# EAGLE library part PEX78311 (library plxtech)
PCI Express Endpoint Interface Auto generated by make-symbol-device-package-bsdl.ulp Rev. 16 from PEX8311_BSDL_netlist_r1.0.dat and manuell corrected Source: PEX_8311AA_Data_Book_v0.90_10Apr06.pdf
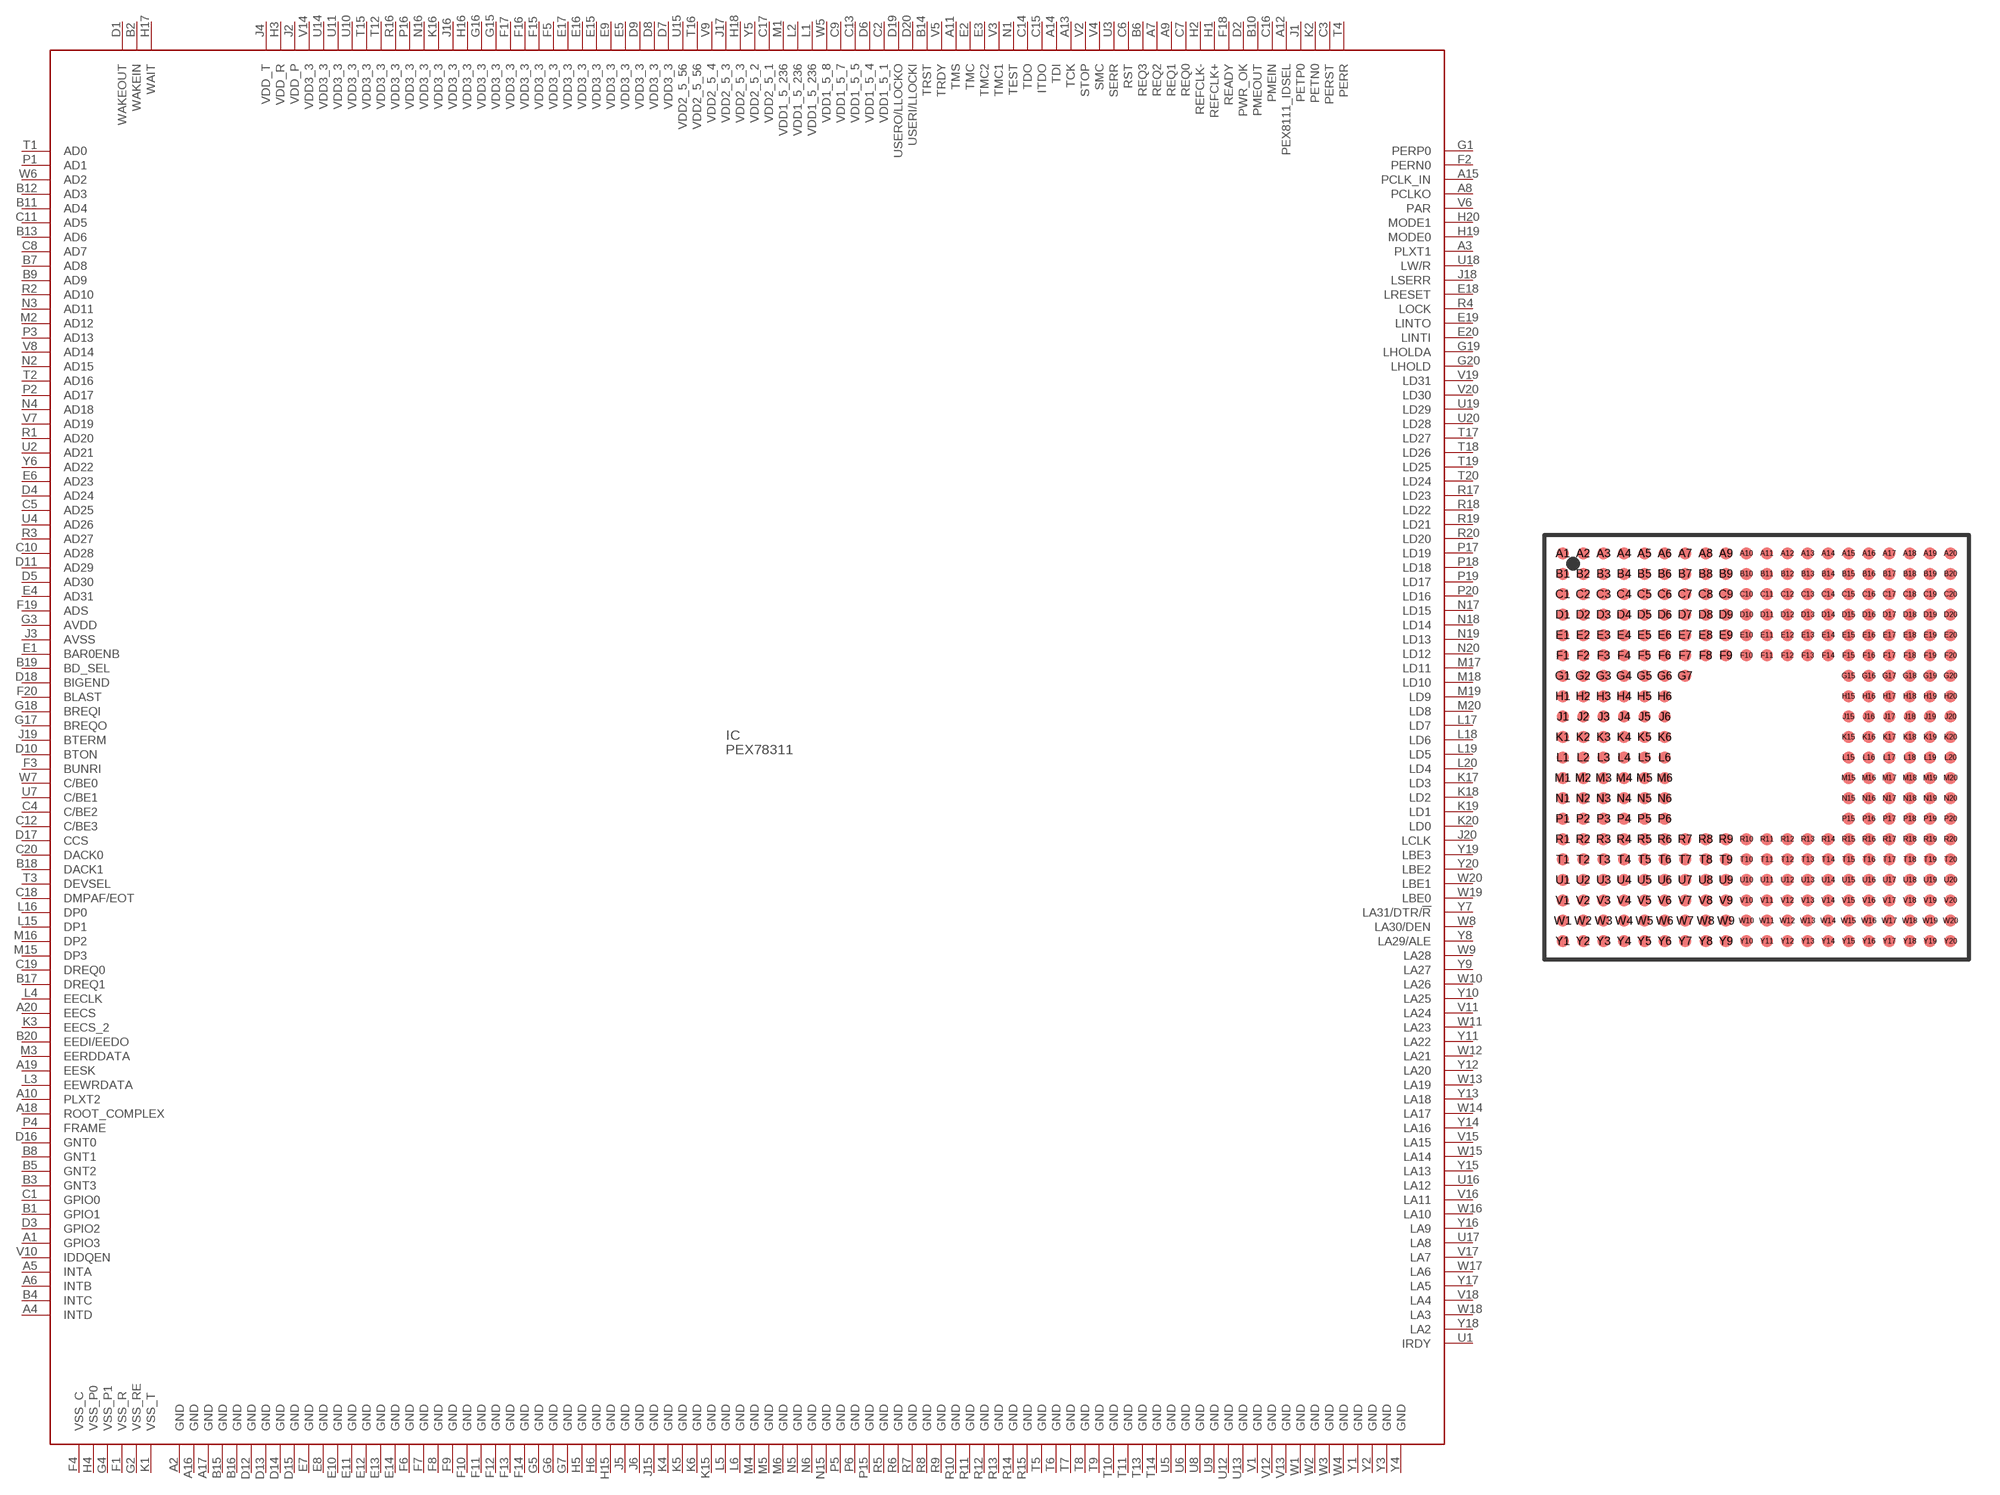
[diagram p0: symbol with the pads of PBGA337; footprint PBGA337]

Designator prefix IC

## PEX78311 (OC_FARNELL: unknown; OC_NEWARK: unknown)  [PBGA337]
A1  GPIO3
A2  GND  pwr
A3  PLXT1  in
A4  INTD
A5  INTA
A6  INTB
A7  REQ2
A8  PCLKO  out
A9  REQ1
A10  PLXT2  in
A11  TMS  in
A12  PEX8111_IDSEL
A13  TCK  in
A14  TDI  in
A15  PCLK_IN  in
A16  GND  pwr
A17  GND  pwr
A18  ROOT_COMPLEX  in
A19  EESK  out
A20  EECS  out
B1  GPIO1
B2  WAKEIN  in
B3  GNT3
B4  INTC
B5  GNT2
B6  REQ3
B7  AD8
B8  GNT1
B9  AD9
B10  PMEOUT  out
B11  AD4
B12  AD3
B13  AD6
B14  TRST  in
B15  GND  pwr
B16  GND  pwr
B17  DREQ1  in
B18  DACK1  out
B19  BD_SEL  in
B20  EEDI/EEDO
C1  GPIO0
C2  VDD1_5_1  pwr
C3  PERST
C4  C/BE2
C5  AD25
C6  RST
C7  REQ0
C8  AD7
C9  VDD1_5_7  pwr
C10  AD28
C11  AD5
C12  C/BE3
C13  VDD1_5_5  pwr
C14  TDO  out
C15  ITDO
C16  PMEIN  in
C17  VDD2_5_1  pwr
C18  DMPAF/EOT
C19  DREQ0  in
C20  DACK0  out
D1  WAKEOUT  out
D2  PWR_OK  out
D3  GPIO2
D4  AD24
D5  AD30
D6  VDD1_5_4  pwr
D7  VDD3_3  pwr
D8  VDD3_3  pwr
D9  VDD3_3  pwr
D10  BTON  in
D11  AD29
D12  GND  pwr
D13  GND  pwr
D14  GND  pwr
D15  GND  pwr
D16  GNT0
D17  CCS  in
D18  BIGEND  in
D19  USERO/LLOCKO  out
D20  USERI/LLOCKI  in
E1  BAR0ENB  in
E2  TMC  in
E3  TMC2  in
E4  AD31
E5  VDD3_3  pwr
E6  AD23
E7  GND  pwr
E8  GND  pwr
E9  VDD3_3  pwr
E10  GND  pwr
E11  GND  pwr
E12  GND  pwr
E13  GND  pwr
E14  GND  pwr
E15  VDD3_3  pwr
E16  VDD3_3  pwr
E17  VDD3_3  pwr
E18  LRESET
E19  LINTO  out
E20  LINTI  in
F1  VSS_R  pwr
F2  PERN0  in
F3  BUNRI  in
F4  VSS_C  pwr
F5  VDD3_3  pwr
F6  GND  pwr
F7  GND  pwr
F8  GND  pwr
F9  GND  pwr
F10  GND  pwr
F11  GND  pwr
F12  GND  pwr
F13  GND  pwr
F14  GND  pwr
F15  VDD3_3  pwr
F16  VDD3_3  pwr
F17  VDD3_3  pwr
F18  READY
F19  ADS
F20  BLAST
G1  PERP0  in
G2  VSS_RE  pwr
G3  AVDD  pwr
G4  VSS_P1  pwr
G5  GND  pwr
G6  GND  pwr
G7  GND  pwr
G15  VDD3_3  pwr
G16  VDD3_3  pwr
G17  BREQO  out
G18  BREQI  in
G19  LHOLDA  in
G20  LHOLD  out
H1  REFCLK+  in
H2  REFCLK-  in
H3  VDD_R  pwr
H4  VSS_P0  pwr
H5  GND  pwr
H6  GND  pwr
H15  GND  pwr
H16  VDD3_3  pwr
H17  WAIT
H18  VDD2_5_3  pwr
H19  MODE0  in
H20  MODE1  in
J1  PETP0  out
J2  VDD_P  pwr
J3  AVSS  pwr
J4  VDD_T  pwr
J5  GND  pwr
J6  GND  pwr
J15  GND  pwr
J16  VDD3_3  pwr
J17  VDD2_5_3  pwr
J18  LSERR  out
J19  BTERM
J20  LCLK  in
K1  VSS_T  pwr
K2  PETN0  out
K3  EECS_2
K4  GND  pwr
K5  GND  pwr
K6  GND  pwr
K15  GND  pwr
K16  VDD3_3  pwr
K17  LD3
K18  LD2
K19  LD1
K20  LD0
L1  VDD1_5_236  pwr
L2  VDD1_5_236  pwr
L3  EEWRDATA
L4  EECLK  out
L5  GND  pwr
L6  GND  pwr
L15  DP1
L16  DP0
L17  LD7
L18  LD6
L19  LD5
L20  LD4
M1  VDD1_5_236  pwr
M2  AD12
M3  EERDDATA  out
M4  GND  pwr
M5  GND  pwr
M6  GND  pwr
M15  DP3
M16  DP2
M17  LD11
M18  LD10
M19  LD9
M20  LD8
N1  TEST  in
N2  AD15
N3  AD11
N4  AD18
N5  GND  pwr
N6  GND  pwr
N15  GND  pwr
N16  VDD3_3  pwr
N17  LD15
N18  LD14
N19  LD13
N20  LD12
P1  AD1
P2  AD17
P3  AD13
P4  FRAME
P5  GND  pwr
P6  GND  pwr
P15  GND  pwr
P16  VDD3_3  pwr
P17  LD19
P18  LD18
P19  LD17
P20  LD16
R1  AD20
R2  AD10
R3  AD27
R4  LOCK
R5  GND  pwr
R6  GND  pwr
R7  GND  pwr
R8  GND  pwr
R9  GND  pwr
R10  GND  pwr
R11  GND  pwr
R12  GND  pwr
R13  GND  pwr
R14  GND  pwr
R15  GND  pwr
R16  VDD3_3  pwr
R17  LD23
R18  LD22
R19  LD21
R20  LD20
T1  AD0
T2  AD16
T3  DEVSEL
T4  PERR
T5  GND  pwr
T6  GND  pwr
T7  GND  pwr
T8  GND  pwr
T9  GND  pwr
T10  GND  pwr
T11  GND  pwr
T12  VDD3_3  pwr
T13  GND  pwr
T14  GND  pwr
T15  VDD3_3  pwr
T16  VDD2_5_56  pwr
T17  LD27
T18  LD26
T19  LD25
T20  LD24
U1  IRDY
U2  AD21
U3  SERR
U4  AD26
U5  GND  pwr
U6  GND  pwr
U7  C/BE1
U8  GND  pwr
U9  GND  pwr
U10  VDD3_3  pwr
U11  VDD3_3  pwr
U12  GND  pwr
U13  GND  pwr
U14  VDD3_3  pwr
U15  VDD2_5_56  pwr
U16  LA12
U17  LA8
U18  LW/R
U19  LD29
U20  LD28
V1  GND  pwr
V2  STOP
V3  TMC1  in
V4  SMC  in
V5  TRDY
V6  PAR
V7  AD19
V8  AD14
V9  VDD2_5_4  pwr
V10  IDDQEN  in
V11  LA24
V12  GND  pwr
V13  GND  pwr
V14  VDD3_3  pwr
V15  LA15
V16  LA11
V17  LA7
V18  LA4
V19  LD31
V20  LD30
W1  GND  pwr
W2  GND  pwr
W3  GND  pwr
W4  GND  pwr
W5  VDD1_5_8  pwr
W6  AD2
W7  C/BE0
W8  LA30/DEN
W9  LA28
W10  LA26
W11  LA23
W12  LA21
W13  LA19
W14  LA17
W15  LA14
W16  LA10
W17  LA6
W18  LA3
W19  LBE0
W20  LBE1
Y1  GND  pwr
Y2  GND  pwr
Y3  GND  pwr
Y4  GND  pwr
Y5  VDD2_5_2  pwr
Y6  AD22
Y7  LA31/DTR/!R
Y8  LA29/ALE
Y9  LA27
Y10  LA25
Y11  LA22
Y12  LA20
Y13  LA18
Y14  LA16
Y15  LA13
Y16  LA9
Y17  LA5
Y18  LA2
Y19  LBE3
Y20  LBE2

## Footprint PBGA337 (pad centres in mm)
PEX 8311 337-Ball PBGA Package Source: www.plxtech.com ... PEX_8311AA_Data_Book_v0.90_10Apr06.pdf
smd 0.6 x 0.6: A1 -9.5,9.5; A2 -8.5,9.5; A3 -7.5,9.5; A4 -6.5,9.5; A5 -5.5,9.5; A6 -4.5,9.5; A7 -3.5,9.5; A8 -2.5,9.5; A9 -1.5,9.5; A10 -0.5,9.5; A11 0.5,9.5; A12 1.5,9.5; A13 2.5,9.5; A14 3.5,9.5; A15 4.5,9.5; A16 5.5,9.5; A17 6.5,9.5; A18 7.5,9.5; A19 8.5,9.5; A20 9.5,9.5; B1 -9.5,8.5; B2 -8.5,8.5; B3 -7.5,8.5; B4 -6.5,8.5; B5 -5.5,8.5; B6 -4.5,8.5; B7 -3.5,8.5; B8 -2.5,8.5; B9 -1.5,8.5; B10 -0.5,8.5; B11 0.5,8.5; B12 1.5,8.5; B13 2.5,8.5; B14 3.5,8.5; B15 4.5,8.5; B16 5.5,8.5; B17 6.5,8.5; B18 7.5,8.5; B19 8.5,8.5; B20 9.5,8.5; C1 -9.5,7.5; C2 -8.5,7.5; C3 -7.5,7.5; C4 -6.5,7.5; C5 -5.5,7.5; C6 -4.5,7.5; C7 -3.5,7.5; C8 -2.5,7.5; C9 -1.5,7.5; C10 -0.5,7.5; C11 0.5,7.5; C12 1.5,7.5; C13 2.5,7.5; C14 3.5,7.5; C15 4.5,7.5; C16 5.5,7.5; C17 6.5,7.5; C18 7.5,7.5; C19 8.5,7.5; C20 9.5,7.5; D1 -9.5,6.5; D2 -8.5,6.5; D3 -7.5,6.5; D4 -6.5,6.5; D5 -5.5,6.5; D6 -4.5,6.5; D7 -3.5,6.5; D8 -2.5,6.5; D9 -1.5,6.5; D10 -0.5,6.5; D11 0.5,6.5; D12 1.5,6.5; D13 2.5,6.5; D14 3.5,6.5; D15 4.5,6.5; D16 5.5,6.5; D17 6.5,6.5; D18 7.5,6.5; D19 8.5,6.5; D20 9.5,6.5; E1 -9.5,5.5; E2 -8.5,5.5; E3 -7.5,5.5; E4 -6.5,5.5; E5 -5.5,5.5; E6 -4.5,5.5; E7 -3.5,5.5; E8 -2.5,5.5; E9 -1.5,5.5; E10 -0.5,5.5; E11 0.5,5.5; E12 1.5,5.5; E13 2.5,5.5; E14 3.5,5.5; E15 4.5,5.5; E16 5.5,5.5; E17 6.5,5.5; E18 7.5,5.5; E19 8.5,5.5; E20 9.5,5.5; F1 -9.5,4.5; F2 -8.5,4.5; F3 -7.5,4.5; F4 -6.5,4.5; F5 -5.5,4.5; F6 -4.5,4.5; F7 -3.5,4.5; F8 -2.5,4.5; F9 -1.5,4.5; F10 -0.5,4.5; F11 0.5,4.5; F12 1.5,4.5; F13 2.5,4.5; F14 3.5,4.5; F15 4.5,4.5; F16 5.5,4.5; F17 6.5,4.5; F18 7.5,4.5; F19 8.5,4.5; F20 9.5,4.5; G1 -9.5,3.5; G2 -8.5,3.5; G3 -7.5,3.5; G4 -6.5,3.5; G5 -5.5,3.5; G6 -4.5,3.5; G7 -3.5,3.5; G15 4.5,3.5; G16 5.5,3.5; G17 6.5,3.5; G18 7.5,3.5; G19 8.5,3.5; G20 9.5,3.5; H1 -9.5,2.5; H2 -8.5,2.5; H3 -7.5,2.5; H4 -6.5,2.5; H5 -5.5,2.5; H6 -4.5,2.5; H15 4.5,2.5; H16 5.5,2.5; H17 6.5,2.5; H18 7.5,2.5; H19 8.5,2.5; H20 9.5,2.5; J1 -9.5,1.5; J2 -8.5,1.5; J3 -7.5,1.5; J4 -6.5,1.5; J5 -5.5,1.5; J6 -4.5,1.5; J15 4.5,1.5; J16 5.5,1.5; J17 6.5,1.5; J18 7.5,1.5; J19 8.5,1.5; J20 9.5,1.5; K1 -9.5,0.5; K2 -8.5,0.5; K3 -7.5,0.5; K4 -6.5,0.5; K5 -5.5,0.5; K6 -4.5,0.5; K15 4.5,0.5; K16 5.5,0.5; K17 6.5,0.5; K18 7.5,0.5; K19 8.5,0.5; K20 9.5,0.5; L1 -9.5,-0.5; L2 -8.5,-0.5; L3 -7.5,-0.5; L4 -6.5,-0.5; L5 -5.5,-0.5; L6 -4.5,-0.5; L15 4.5,-0.5; L16 5.5,-0.5; L17 6.5,-0.5; L18 7.5,-0.5; L19 8.5,-0.5; L20 9.5,-0.5; M1 -9.5,-1.5; M2 -8.5,-1.5; M3 -7.5,-1.5; M4 -6.5,-1.5; M5 -5.5,-1.5; M6 -4.5,-1.5; M15 4.5,-1.5; M16 5.5,-1.5; M17 6.5,-1.5; M18 7.5,-1.5; M19 8.5,-1.5; M20 9.5,-1.5; N1 -9.5,-2.5; N2 -8.5,-2.5; N3 -7.5,-2.5; N4 -6.5,-2.5; N5 -5.5,-2.5; N6 -4.5,-2.5; N15 4.5,-2.5; N16 5.5,-2.5; N17 6.5,-2.5; N18 7.5,-2.5; N19 8.5,-2.5; N20 9.5,-2.5; P1 -9.5,-3.5; P2 -8.5,-3.5; P3 -7.5,-3.5; P4 -6.5,-3.5; P5 -5.5,-3.5; P6 -4.5,-3.5; P15 4.5,-3.5; P16 5.5,-3.5; P17 6.5,-3.5; P18 7.5,-3.5; P19 8.5,-3.5; P20 9.5,-3.5; R1 -9.5,-4.5; R2 -8.5,-4.5; R3 -7.5,-4.5; R4 -6.5,-4.5; R5 -5.5,-4.5; R6 -4.5,-4.5; R7 -3.5,-4.5; R8 -2.5,-4.5; R9 -1.5,-4.5; R10 -0.5,-4.5; R11 0.5,-4.5; R12 1.5,-4.5; R13 2.5,-4.5; R14 3.5,-4.5; R15 4.5,-4.5; R16 5.5,-4.5; R17 6.5,-4.5; R18 7.5,-4.5; R19 8.5,-4.5; R20 9.5,-4.5; T1 -9.5,-5.5; T2 -8.5,-5.5; T3 -7.5,-5.5; T4 -6.5,-5.5; T5 -5.5,-5.5; T6 -4.5,-5.5; T7 -3.5,-5.5; T8 -2.5,-5.5; T9 -1.5,-5.5; T10 -0.5,-5.5; T11 0.5,-5.5; T12 1.5,-5.5; T13 2.5,-5.5; T14 3.5,-5.5; T15 4.5,-5.5; T16 5.5,-5.5; T17 6.5,-5.5; T18 7.5,-5.5; T19 8.5,-5.5; T20 9.5,-5.5; U1 -9.5,-6.5; U2 -8.5,-6.5; U3 -7.5,-6.5; U4 -6.5,-6.5; U5 -5.5,-6.5; U6 -4.5,-6.5; U7 -3.5,-6.5; U8 -2.5,-6.5; U9 -1.5,-6.5; U10 -0.5,-6.5; U11 0.5,-6.5; U12 1.5,-6.5; U13 2.5,-6.5; U14 3.5,-6.5; U15 4.5,-6.5; U16 5.5,-6.5; U17 6.5,-6.5; U18 7.5,-6.5; U19 8.5,-6.5; U20 9.5,-6.5; V1 -9.5,-7.5; V2 -8.5,-7.5; V3 -7.5,-7.5; V4 -6.5,-7.5; V5 -5.5,-7.5; V6 -4.5,-7.5; V7 -3.5,-7.5; V8 -2.5,-7.5; V9 -1.5,-7.5; V10 -0.5,-7.5; V11 0.5,-7.5; V12 1.5,-7.5; V13 2.5,-7.5; V14 3.5,-7.5; V15 4.5,-7.5; V16 5.5,-7.5; V17 6.5,-7.5; V18 7.5,-7.5; V19 8.5,-7.5; V20 9.5,-7.5; W1 -9.5,-8.5; W2 -8.5,-8.5; W3 -7.5,-8.5; W4 -6.5,-8.5; W5 -5.5,-8.5; W6 -4.5,-8.5; W7 -3.5,-8.5; W8 -2.5,-8.5; W9 -1.5,-8.5; W10 -0.5,-8.5; W11 0.5,-8.5; W12 1.5,-8.5; W13 2.5,-8.5; W14 3.5,-8.5; W15 4.5,-8.5; W16 5.5,-8.5; W17 6.5,-8.5; W18 7.5,-8.5; W19 8.5,-8.5; W20 9.5,-8.5; Y1 -9.5,-9.5; Y2 -8.5,-9.5; Y3 -7.5,-9.5; Y4 -6.5,-9.5; Y5 -5.5,-9.5; Y6 -4.5,-9.5; Y7 -3.5,-9.5; Y8 -2.5,-9.5; Y9 -1.5,-9.5; Y10 -0.5,-9.5; Y11 0.5,-9.5; Y12 1.5,-9.5; Y13 2.5,-9.5; Y14 3.5,-9.5; Y15 4.5,-9.5; Y16 5.5,-9.5; Y17 6.5,-9.5; Y18 7.5,-9.5; Y19 8.5,-9.5; Y20 9.5,-9.5